# Altium schematic symbol library Solar_ESC_AM32.SchLib: 25 symbols
Pins are listed as number, name and electrical type; pins without a type are passive.

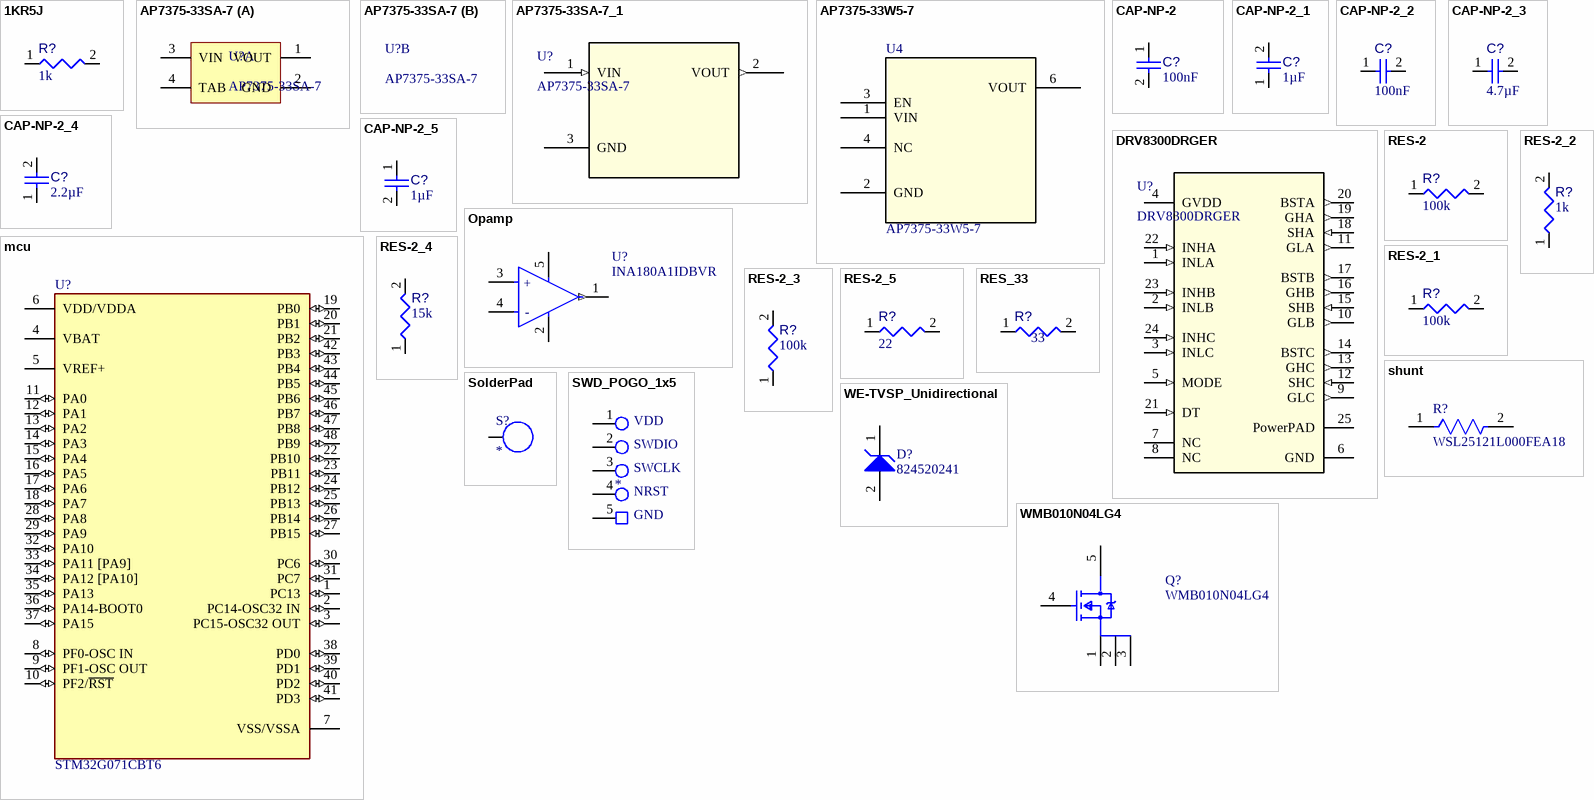
[diagram p0: symbols 1KR5J to WMB010N04LG4]

## 1KR5J
designator R?  value 1k  (hidden comment: 1KR5J)
1K 0.125W 5% 0805 (2012 Metric)  SMD; Power: 125mW; Pins: 2; Mounting Technology: SMT; Tolerance: 5%; Case/Package: 0805
footprint RESC0805(2012)_L (Chip Resistor, Body 2.0x1.3mm, IPC High Density)
pins: 1, 2
1 alternate drawing of the same symbol

## AP7375-33SA-7
designator U?
Description; Manufacturer_Name: Diodes Inc; Copyright: Copyright (C) 2026 Ultra Librarian. All rights reserved.; Manufacturer_Part_Number: AP7375-33SA-7; RefDes: RefDes; Type: Type
footprint AP7375-33SA-7_DIO
part A pins: 1 VOUT (power), 2 GND (power), 3 VIN (power), 4 TAB (power)

## AP7375-33SA-7_1
designator U?, comment AP7375-33SA-7
Description; Manufacturer_Name: Diodes Inc; Copyright: Copyright (C) 2026 Ultra Librarian. All rights reserved.; Manufacturer_Part_Number: AP7375-33SA-7; RefDes: RefDes; Type: Type
footprint AP7375-33SA-7_DIO
pins: 1 VIN (in), 2 VOUT (out), 3 GND (power)

## AP7375-33W5-7
designator U4
Description; Manufacturer_Name: Diodes Inc; Copyright: Copyright (C) 2026 Ultra Librarian. All rights reserved.; Manufacturer_Part_Number: AP7375-33W5-7; RefDes: RefDes; Type: Type
footprint SOT25_AP7375-33W5-7_DIO
pins: 1 VIN, 2 GND (power), 3 EN, 4 NC, 6 VOUT (power)

## CAP-NP-2
designator C?, comment value 100nF  (hidden comment: Capacitor 0.1µF +/-40% 25V 0805)
Chip Capacitor, 0.1µF +/-40%, 25V, 0805, Thickness 1.45 mm; Tolerance: 20%; Mounting Technology: SMT; Max Operating Temperature: 85°C; Pins: 2; Voltage Rating: 25V; Case/Package: 0805; Min Operating Temperature: -55°C
footprint CAPC0805(2012)145_L (Chip Capacitor, Body 2.0x1.2mm, Height 1.45mm, IPC High Density)
pins: 1, 2

## CAP-NP-2_1
designator C?, comment value 1µF  (hidden comment: Capacitor 1µF +/-40% 50V 0603)
Chip Capacitor, 1µF +/-40%, 50V, 0603, Thickness 1 mm; Tolerance: 10%; Case/Package: 0603; Pins: 2; Max Operating Temperature: 85°C; Voltage Rating: 50V; Mounting Technology: SMT; Min Operating Temperature: -55°C
footprint CAPC0603(1608)100_L (Chip Capacitor, Body 1.6x0.8mm, Height 1.0mm, IPC High Density)
pins: 1, 2

## CAP-NP-2_2
designator C?, comment value 100nF  (hidden comment: Capacitor 0.1µF +/-40% 25V 0805)
Chip Capacitor, 0.1µF +/-40%, 25V, 0805, Thickness 1.45 mm; Tolerance: 20%; Mounting Technology: SMT; Max Operating Temperature: 85°C; Pins: 2; Voltage Rating: 25V; Case/Package: 0805; Min Operating Temperature: -55°C
footprint CAPC0805(2012)145_L (Chip Capacitor, Body 2.0x1.2mm, Height 1.45mm, IPC High Density)
pins: 1, 2

## CAP-NP-2_3
designator C?, comment value 4.7µF  (hidden comment: Capacitor 4.7µF +/-40% 25V 0805)
Chip Capacitor, 4.7µF +/-40%, 25V, 0805, Thickness 1.45 mm; Tolerance: 20%; Voltage Rating: 25V; Min Operating Temperature: -55°C; Max Operating Temperature: 85°C; Pins: 2; Mounting Technology: SMT; Case/Package: 0805
footprint CAPC0805(2012)145_L (Chip Capacitor, Body 2.0x1.2mm, Height 1.45mm, IPC High Density)
pins: 1, 2

## CAP-NP-2_4
designator C?, comment value 2.2µF  (hidden comment: Capacitor 2.2µF +/-40% 35V 0805)
Chip Capacitor, 2.2µF +/-40%, 35V, 0805, Thickness 1.45 mm; Tolerance: 20%; Pins: 2; Max Operating Temperature: 85°C; Mounting Technology: SMT; Voltage Rating: 35V; Min Operating Temperature: -55°C; Case/Package: 0805
footprint CAPC0805(2012)145_L (Chip Capacitor, Body 2.0x1.2mm, Height 1.45mm, IPC High Density)
pins: 1, 2

## CAP-NP-2_5
designator C?, comment value 1µF  (hidden comment: Capacitor 1µF +/-40% 25V 0805)
Chip Capacitor, 1µF +/-40%, 25V, 0805, Thickness 1.45 mm; Tolerance: 20%; Pins: 2; Mounting Technology: SMT; Min Operating Temperature: -55°C; Case/Package: 0805; Max Operating Temperature: 85°C; Voltage Rating: 25V
footprint CAPC0805(2012)145_L (Chip Capacitor, Body 2.0x1.2mm, Height 1.45mm, IPC High Density)
pins: 1, 2

## DRV8300DRGER
designator U?
100-V max simple 3-phase gate driver with bootstrap diodes 24-VQFN -40 to 125; Manufacturer_Name: Texas Instruments; TYPE: TYPE; RefDes: RefDes; Copyright: Copyright (C) 2025 Ultra Librarian. All rights reserved.; Manufacturer_Part_Number: DRV8300DRGER
footprint RGE0024B-IPC_B
pins: 1 INLA (in), 2 INLB (in), 3 INLC (in), 4 GVDD (power), 5 MODE (in), 6 GND (power), 7 NC, 8 NC, 9 GLC (out), 10 GLB (out), 11 GLA (out), 12 SHC (in), 13 GHC (out), 14 BSTC (out), 15 SHB (in), 16 GHB (out), 17 BSTB (out), 18 SHA (in), 19 GHA (out), 20 BSTA (out), 21 DT (in), 22 INHA (in), 23 INHB (in), 24 INHC (in), 25 PowerPAD (power)

## mcu
designator U?, comment STM32G071CBT6
IC MCU 32BIT 128KB FLASH 48LQFP; Manufacturer: STMicroelectronics; Max Junction Temp: +105°C; Number Of I2C Channels: 2; Number Of Adc Channels: 17; Frequency: 64MHz; Memory Size: 128KBytes; Interface: I2C,SPI,UART,USART,USB,LIN,IrDA,I2S,Other; Ram Size: 36KBytes; Min Supply Voltage: 1.55V; Number Of Cores: 1; Max Supply Voltage: 3.6V; Core Architecture: ARM Cortex-M0+; Standoff Height: 0.05mm; Number Of Timers/Counters: 12; Number Of I/Os: 44; Data Bus Width: 32bits; Number Of Uart Channels: 5; Temperature Range Low: -40°C; Package: LQFP48-5B; Lead Free: Yes; Temperature Range High: +85°C; Octopart: https://octopart.com/stm32g071cbt6-stmicroelectronics-96627027; Ambient Temperature Range Low: -40°C; Automotive: No; Device Class L1: Integrated Circuits (ICs); Height: 1.6mm; ComponentLink2URL: https://www.st.com/resource/en/datasheet/stm32g071cb.pdf; Manufacturer Part Number: STM32G071CBT6; Number Of Usb Channels: 2; Device Class L3: Microcontrollers; ComponentLink2Description: Datasheet; Number Of Spi Channels: 2; Memory Type: FLASH; Device Class L2: Embedded Processors and Controllers; Digikey Description: IC MCU 32BIT 128KB FLASH 48LQFP; Ambient Temperature Range High: +85°C; Category: IC; Number Of A/D Converters: 1; RoHS: TRUE; Temperature: -40°C to +85°C
footprint FP-LQFP48-5B-MFG
footprint FP-LQFP48-5B-IPC_C
footprint FP-LQFP48-5B-IPC_B
footprint FP-LQFP48-5B-IPC_A
pins: 1 PC13 (io), 2 PC14-OSC32 IN (io), 3 PC15-OSC32 OUT (io), 4 VBAT (power), 5 VREF+ (power), 6 VDD/VDDA (power), 7 VSS/VSSA (power), 8 PF0-OSC IN (io), 9 PF1-OSC OUT (io), 10 PF2/~{RST} (io), 11 PA0 (io), 12 PA1 (io), 13 PA2 (io), 14 PA3 (io), 15 PA4 (io), 16 PA5 (io), 17 PA6 (io), 18 PA7 (io), 19 PB0 (io), 20 PB1 (io), 21 PB2 (io), 22 PB10 (io), 23 PB11 (io), 24 PB12 (io), 25 PB13 (io), 26 PB14 (io), 27 PB15 (io), 28 PA8 (io), 29 PA9 (io), 30 PC6 (io), 31 PC7 (io), 32 PA10 (io), 33 PA11 [PA9] (io), 34 PA12 [PA10] (io), 35 PA13 (io), 36 PA14-BOOT0 (io), 37 PA15 (io), 38 PD0 (io), 39 PD1 (io), 40 PD2 (io), 41 PD3 (io), 42 PB3 (io), 43 PB4 (io), 44 PB5 (io), 45 PB6 (io), 46 PB7 (io), 47 PB8 (io), 48 PB9 (io)

## Opamp
designator U?, comment INA180A1IDBVR
IC CURR SENSE 1 CIRCUIT SOT23-5; Input Bias Current: 100nA; Input Offset Voltage (Vos): 100uV; Number of Circuits: 1; Slew Rate: 2V/µs; -3db Bandwidth: 350kHz; Operating Supply Current: 260uA; Case/Package: SOT-23-5; Min Operating Temperature: -40°C; Mount: Surface Mount; Packaging: Tape and Reel; Max Operating Temperature: 125°C
footprint FP-DBV0005A-IPC_A
footprint FP-DBV0005A-IPC_B
footprint FP-DBV0005A-IPC_C
footprint FP-DBV0005A-MFG
pins: 1 OUT (out), 2 GND (power), 3 IN+ (hiz), 4 IN- (hiz), 5 VS (power)
text: +; -

## RES-2
designator R?, comment value 100k  (hidden comment: Resistor 100k +/-1% 0603 100 mW)
Chip Resistor, 100 KOhm, +/- 1%, 0.1 W, -55 to 155 degC, 0603 (1608 Metric); Voltage Rating: 50V; Power: 100mW; Max Operating Temperature: 155°C; RoHS Compliant: True; Tolerance: 1%; Pins: 2; Case/Package: 0603; Mounting Technology: SM; Min Operating Temperature: -55°C
footprint RESC1608X55X25ML10T15 (Chip Resistor, 2-Leads, Body 1.70x0.90mm, IPC Low Density)
footprint RESC1608X55X25NL10T15 (Chip Resistor, 2-Leads, Body 1.70x0.90mm, IPC Medium Density)
footprint RESC1608X55X25LL10T15 (Chip Resistor, 2-Leads, Body 1.70x0.90mm, IPC High Density)
pins: 1, 2
1 alternate drawing of the same symbol

## RES-2_1
designator R?, comment value 100k  (hidden comment: Resistor 100k +/-1% 0805 125 mW)
Chip Resistor, 100 KOhm, +/- 1%, 0.125 W, -55 to 155 degC, 0805 (2012 Metric); Power: 125mW; Voltage Rating: 150V; Max Operating Temperature: 155°C; Mounting Technology: SM; RoHS Compliant: True; Tolerance: 1%; Case/Package: 0805; Min Operating Temperature: -55°C; Pins: 2
footprint RESC2013X70X40ML20T20 (Chip Resistor, 2-Leads, Body 2.2x1.35mm, IPC Low Density)
footprint RESC2013X70X40NL20T20 (Chip Resistor, 2-Leads, Body 2.2x1.35mm, IPC Medium Density)
footprint RESC2013X70X40LL20T20 (Chip Resistor, 2-Leads, Body 2.2x1.35mm, IPC High Density)
pins: 1, 2
1 alternate drawing of the same symbol

## RES-2_2
designator R?, comment value 1k  (hidden comment: Resistor 1K +/-5% 0805 125 mW)
Chip Resistor, 1 kOhms, +/-5%, 125 mW, -55 to 155 degC, 0805; Tolerance: 5%; Power: 125mW; Case/Package: 0805; Pins: 2; Min Operating Temperature: -55°C; Max Operating Temperature: 155°C
footprint RESC0805(2012)_L (Chip Resistor, Body 2.0x1.3mm, IPC High Density)
pins: 1, 2
1 alternate drawing of the same symbol

## RES-2_3
designator R?, comment value 100k  (hidden comment: Resistor 100K +/-1 % 0402 63 mW)
Chip Resistor, 100 kOhms, +/-1 %, 63 mW, -55 to 155 degC, 0402; Tolerance: 1%; Power: 63mW; Max Operating Temperature: 155°C; Min Operating Temperature: -55°C; Pins: 2; Case/Package: 0402
footprint RESC0402(1005)_L (Chip Resistor, Body 1.0x0.5mm, IPC High Density)
pins: 1, 2
1 alternate drawing of the same symbol

## RES-2_4
designator R?, comment value 15k  (hidden comment: Resistor 15K +/-1 % 0402 63 mW)
Chip Resistor, 15 kOhms, +/-1 %, 63 mW, -55 to 155 degC, 0402; Tolerance: 1%; Power: 63mW; Case/Package: 0402; Min Operating Temperature: -55°C; Max Operating Temperature: 155°C; Pins: 2
footprint RESC0402(1005)_L (Chip Resistor, Body 1.0x0.5mm, IPC High Density)
pins: 1, 2
1 alternate drawing of the same symbol

## RES-2_5
designator R?, comment value 22  (hidden comment: Resistor 22R +/-1% 0603 100 mW)
Chip Resistor, 22 Ohm, +/- 1%, 100 mW, -55 to 155 degC, 0603 (1608 Metric); Power: 100mW; Voltage Rating: 75V; Max Operating Temperature: 155°C; Min Operating Temperature: -55°C; Tolerance: 1%; RoHS Compliant: True; Mounting Technology: SM; Case/Package: 0603; Pins: 2
footprint RESC1609X50X30ML08T20 (Chip Resistor, 2-Leads, Body 1.65x0.95mm, IPC Low Density)
footprint RESC1609X50X30NL08T20 (Chip Resistor, 2-Leads, Body 1.65x0.95mm, IPC Medium Density)
footprint RESC1609X50X30LL08T20 (Chip Resistor, 2-Leads, Body 1.65x0.95mm, IPC High Density)
pins: 1, 2
1 alternate drawing of the same symbol

## RES_33
designator R?, comment value 33  (hidden comment: Resistor 33 +/-5% 0603 100 mW)
Chip Resistor, 33Ohm, +/- 5%, 0603 (1608 Metric); Voltage Rating: 50V; Tolerance: 1%; Power: 100mW; Max Operating Temperature: 155°C; RoHS Compliant: True; Pins: 2; Case/Package: 0603; Mounting Technology: SM; Min Operating Temperature: -55°C
footprint RESC1608X55X25ML10T15 (Chip Resistor, 2-Leads, Body 1.70x0.90mm, IPC Low Density)
footprint RESC1608X55X25NL10T15 (Chip Resistor, 2-Leads, Body 1.70x0.90mm, IPC Medium Density)
footprint RESC1608X55X25LL10T15 (Chip Resistor, 2-Leads, Body 1.70x0.90mm, IPC High Density)
footprint Model Name (Footprint not found)
pins: 1, 2
1 alternate drawing of the same symbol

## shunt
designator R?, comment WSL25121L000FEA18
WSL25121L000FEA18 Res Metal Strip 2512 0.001 Ohm 1% 2W ±275ppm/C Sulfur Resistant Pad SMD Automotive T/R; NexarPartId: 41947086; Resistance: 1mΩ; Temperature Coefficient: 275ppm/°C; Termination: SMD/SMT; Weight: 63.58798mg; Min Operating Temperature: -65°C; RoHS: Compliant; Case/Package: 2512; Max Power Dissipation: 2W; Case Code (Imperial): 2512; Lead Free: Lead Free; Radiation Hardening: No; Height: 889µm; Number of Pins: 2512; Tolerance: 1%; Case Code (Metric): 6432; Schedule B: 8533210045, 8533210045; Length: 6.35mm; Packaging: Tape and Reel; Number of Terminations: 2; Max Operating Temperature: 170°C; Width: 3.2mm; Features: Moisture Resistant; Composition: Metal Element; Contact Plating: Tin; Power Rating: 2W
footprint FP-WSL2512-MFG (Thick film chip resistor; smd; 2512; 0.02R; 1%; 1W; ; operating temperature: -55°C~125°C)
footprint FP-WSL2512-IPC_A (Thick film chip resistor; smd; 2512; 0.02R; 1%; 1W; ; operating temperature: -55°C~125°C)
footprint FP-WSL2512-IPC_B (Thick film chip resistor; smd; 2512; 0.02R; 1%; 1W; ; operating temperature: -55°C~125°C)
footprint FP-WSL2512-IPC_C (Thick film chip resistor; smd; 2512; 0.02R; 1%; 1W; ; operating temperature: -55°C~125°C)
pins: 1, 2

## SolderPad
designator S?
Value: *; HelpURL: *; MPN: *; classname: *
footprint SOLDER_PAD_PHASE
footprint SOLDER_PAD_SIGNAL
pins: 1

## SWD_POGO_1x5
designator ?
footprint SWD_pogo_testpoints
pins: 1 VCC, 2 SWDIO, 3 SWCLK, 4 NRST, 5 GND
text: VDD

## WE-TVSP_Unidirectional
designator D?, comment 824520241
824520241 TVS diode [Würth Elektronik] 824520241 TVS diode; NexarPartId: 71101587; Reverse Standoff Voltage: 24V; Polarity: Unidirectional; Peak Pulse Power: 600W; Leakage Current: 1µA; Power Line Protection: No; Clamping Voltage: 38.9V; Breakdown Voltage: 28.1V; Peak Pulse Current: 15.5A; Number of Unidirectional Channels: 1; Max Operating Temperature: 150°C; Packaging: Cut Tape; Composition: Zener; Length: 4.32mm; RoHS: Compliant; REACH SVHC: Unknown; Min Operating Temperature: -65°C; Min Breakdown Voltage: 28.1V; Max Breakdown Voltage: 28.1V; Width: 3.62mm; Mount: Surface Mount; Height: 2.4mm; Number of Pins: 2
footprint WE-TVSP_DO-214AA_Unidirectional (TVS diode [Würth Elektronik] 824520101 TVS diode)
pins: 1 K, 2 A

## WMB010N04LG4
designator Q?
N-MOSFET; unipolar; 40V; 268A; Idm: 1072A; 114W; Max Power Dissipation: 96W; Continuous Drain Current (ID): 217A; Rds On Max: 1.2mR; Input Capacitance: 6.68nF; Max Operating Temperature: 150°C; Lead Free: Lead Free; Packaging: Tape and Reel; Max Dual Supply Voltage: 40V; Drain to Source Voltage (Vdss): 40V; Mount: Surface Mount; Halogen Free: Halogen Free; Min Operating Temperature: -55°C
footprint TRANS_CMS42N10H8-HF
pins: 1 S, 2 S, 3 S, 4 G, 5 D